# EAGLE library part VL53L8CXV0GC_1 (library VL53L8CXV0GC_1)
Low-power high-performance 8x8 multizone Time-of-Flight sensor 940 nm, 6.4x3.0x1.75 mm, -30 to 85C Source: Datasheet <https://www.st.com/resource/en/datasheet/vl53l8cx.pdf>
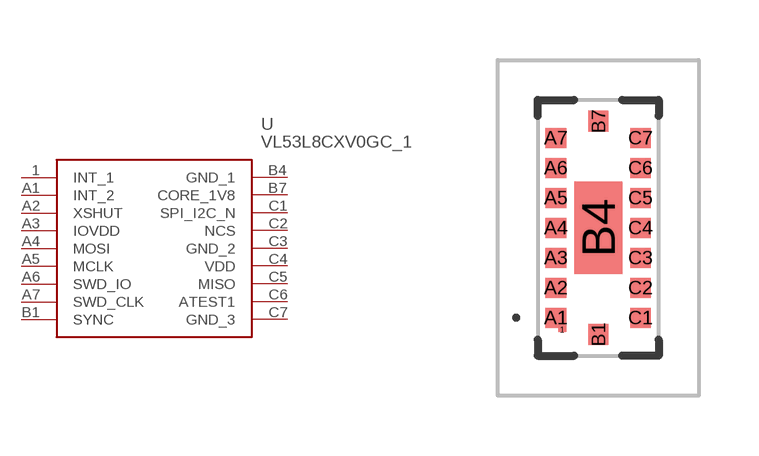
[diagram p0: symbol with the pads of VL53L8CXV0GC1; footprint VL53L8CXV0GC1]

Designator prefix U

## VL53L8CXV0GC_1 (Description: Low-power high-performance 8x8 multizone Time-of-Flight sensor 940 nm, 6.4x3.0x1.75 mm, -30 to 85C; Height: 1.8mm; Manufacturer_Name: STMicroelectronics; Manufacturer_Part_Number: VL53L8CXV0GC/1; Mouser_Part_Number: 511-VL53L8CXV0GC/1; Mouser_Price-Stock: https://www.mouser.co.uk/ProductDetail/STMicroelectronics/VL53L8CXV0GC-1?qs=T%252BzbugeAwjhc9idkQC%252BF8g%3D%3D)  [VL53L8CXV0GC1]
1  INT_1
A1  INT_2
A2  XSHUT
A3  IOVDD
A4  MOSI
A5  MCLK
A6  SWD_IO
A7  SWD_CLK
B1  SYNC
B4  GND_1
B7  CORE_1V8
C1  SPI_I2C_N
C2  NCS
C3  GND_2
C4  VDD
C5  MISO
C6  ATEST1
C7  GND_3

## Footprint VL53L8CXV0GC1 (pad centres in mm)
OPTICAL LGA 6.40X3.03 16 PINS_1
smd 0.2 x 0.1: 1 -0.9,-2.55
smd 0.515 x 0.5: A1 -1.058,-2.25; A2 -1.058,-1.5; A3 -1.058,-0.75; A4 -1.058,0; A5 -1.058,0.75; A6 -1.058,1.5; A7 -1.058,2.25; C1 1.058,-2.25; C2 1.058,-1.5; C3 1.058,-0.75; C4 1.058,0; C5 1.058,0.75; C6 1.058,1.5; C7 1.058,2.25
smd 0.5 x 0.535: B1 0,-2.668; B7 0,2.668
smd 1.2 x 2.316: B4 0,0